# Altium integrated library con-amp-mt6.IntLib: 12 symbols
Pins are listed as number, name and electrical type; pins without a type are passive.

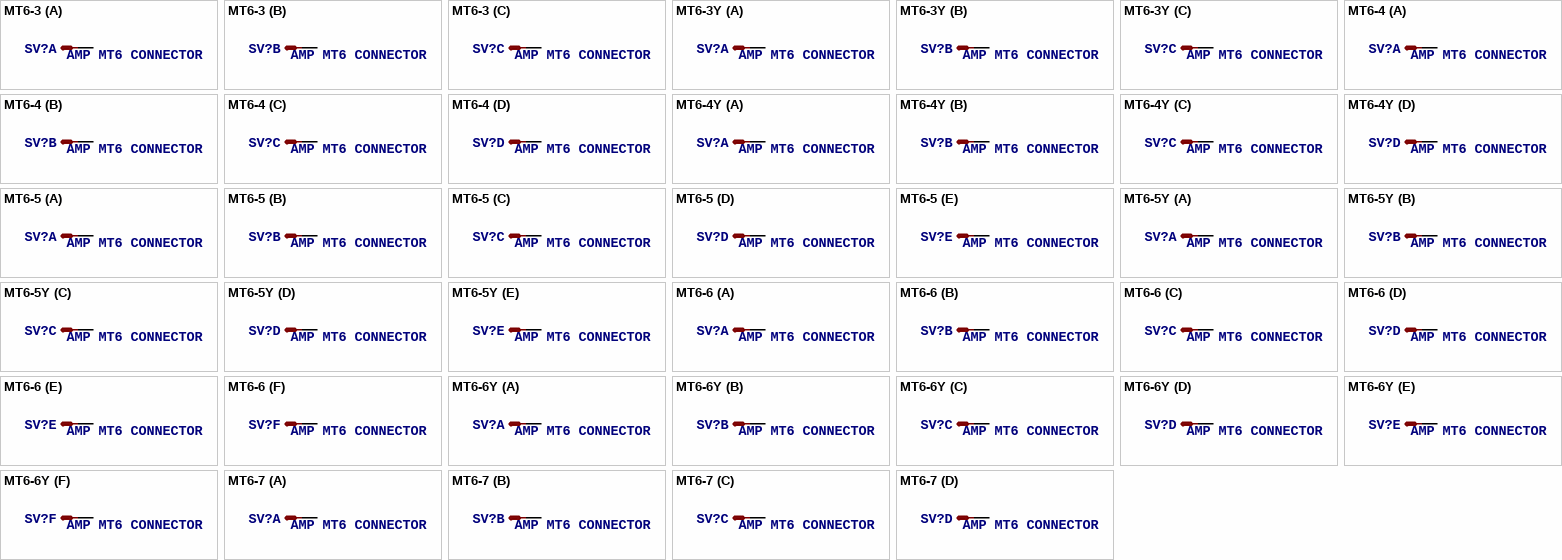
[diagram p0: symbols MT6-3 to MT6-7]

## MT6-3
designator SV?, comment AMP MT6 CONNECTOR
OC_FARNELL: unknown; OC_NEWARK: unknown
footprint MT6-3
part A pins: 1 S
part B pins: 2 S
part C pins: 3 S

## MT6-3Y
designator SV?, comment AMP MT6 CONNECTOR
OC_FARNELL: unknown; OC_NEWARK: unknown
footprint MT6-3Y
part A pins: 1 S
part B pins: 2 S
part C pins: 3 S

## MT6-4
designator SV?, comment AMP MT6 CONNECTOR
OC_FARNELL: unknown; OC_NEWARK: unknown
footprint MT6-4
part A pins: 1 S
part B pins: 2 S
part C pins: 3 S
part D pins: 4 S

## MT6-4Y
designator SV?, comment AMP MT6 CONNECTOR
OC_FARNELL: unknown; OC_NEWARK: unknown
footprint MT6-4Y
part A pins: 1 S
part B pins: 2 S
part C pins: 3 S
part D pins: 4 S

## MT6-5
designator SV?, comment AMP MT6 CONNECTOR
OC_FARNELL: unknown; OC_NEWARK: unknown
footprint MT6-5
part A pins: 1 S
part B pins: 2 S
part C pins: 3 S
part D pins: 4 S
part E pins: 5 S

## MT6-5Y
designator SV?, comment AMP MT6 CONNECTOR
OC_FARNELL: unknown; OC_NEWARK: unknown
footprint MT6-5Y
part A pins: 1 S
part B pins: 2 S
part C pins: 3 S
part D pins: 4 S
part E pins: 5 S

## MT6-6
designator SV?, comment AMP MT6 CONNECTOR
OC_FARNELL: unknown; OC_NEWARK: unknown
footprint MT6-6
part A pins: 1 S
part B pins: 2 S
part C pins: 3 S
part D pins: 4 S
part E pins: 5 S
part F pins: 6 S

## MT6-6Y
designator SV?, comment AMP MT6 CONNECTOR
OC_FARNELL: unknown; OC_NEWARK: unknown
footprint MT6-6Y
part A pins: 1 S
part B pins: 2 S
part C pins: 3 S
part D pins: 4 S
part E pins: 5 S
part F pins: 6 S

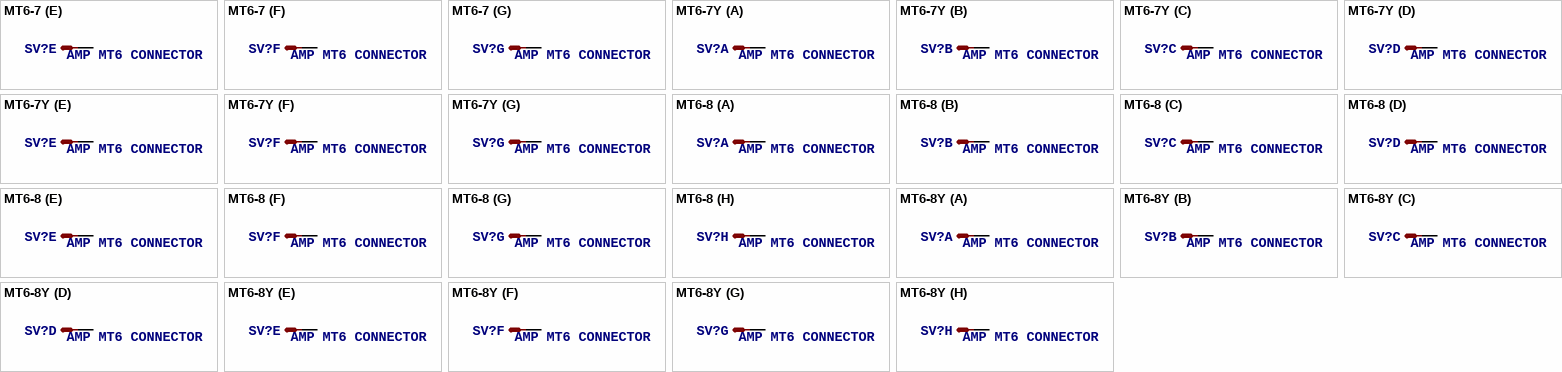
[diagram p1: symbols MT6-7 to MT6-8Y]

## MT6-7
designator SV?, comment AMP MT6 CONNECTOR
OC_FARNELL: unknown; OC_NEWARK: unknown
footprint MT6-7
part A pins: 1 S
part B pins: 2 S
part C pins: 3 S
part D pins: 4 S
part E pins: 5 S
part F pins: 6 S
part G pins: 7 S

## MT6-7Y
designator SV?, comment AMP MT6 CONNECTOR
OC_FARNELL: unknown; OC_NEWARK: unknown
footprint MT6-7Y
part A pins: 1 S
part B pins: 2 S
part C pins: 3 S
part D pins: 4 S
part E pins: 5 S
part F pins: 6 S
part G pins: 7 S

## MT6-8
designator SV?, comment AMP MT6 CONNECTOR
OC_FARNELL: unknown; OC_NEWARK: unknown
footprint MT6-8
part A pins: 1 S
part B pins: 2 S
part C pins: 3 S
part D pins: 4 S
part E pins: 5 S
part F pins: 6 S
part G pins: 7 S
part H pins: 8 S

## MT6-8Y
designator SV?, comment AMP MT6 CONNECTOR
OC_FARNELL: unknown; OC_NEWARK: unknown
footprint MT6-8Y
part A pins: 1 S
part B pins: 2 S
part C pins: 3 S
part D pins: 4 S
part E pins: 5 S
part F pins: 6 S
part G pins: 7 S
part H pins: 8 S